# Altium integrated library ST Logic Gate.IntLib: 257 symbols (part 2 of 6)
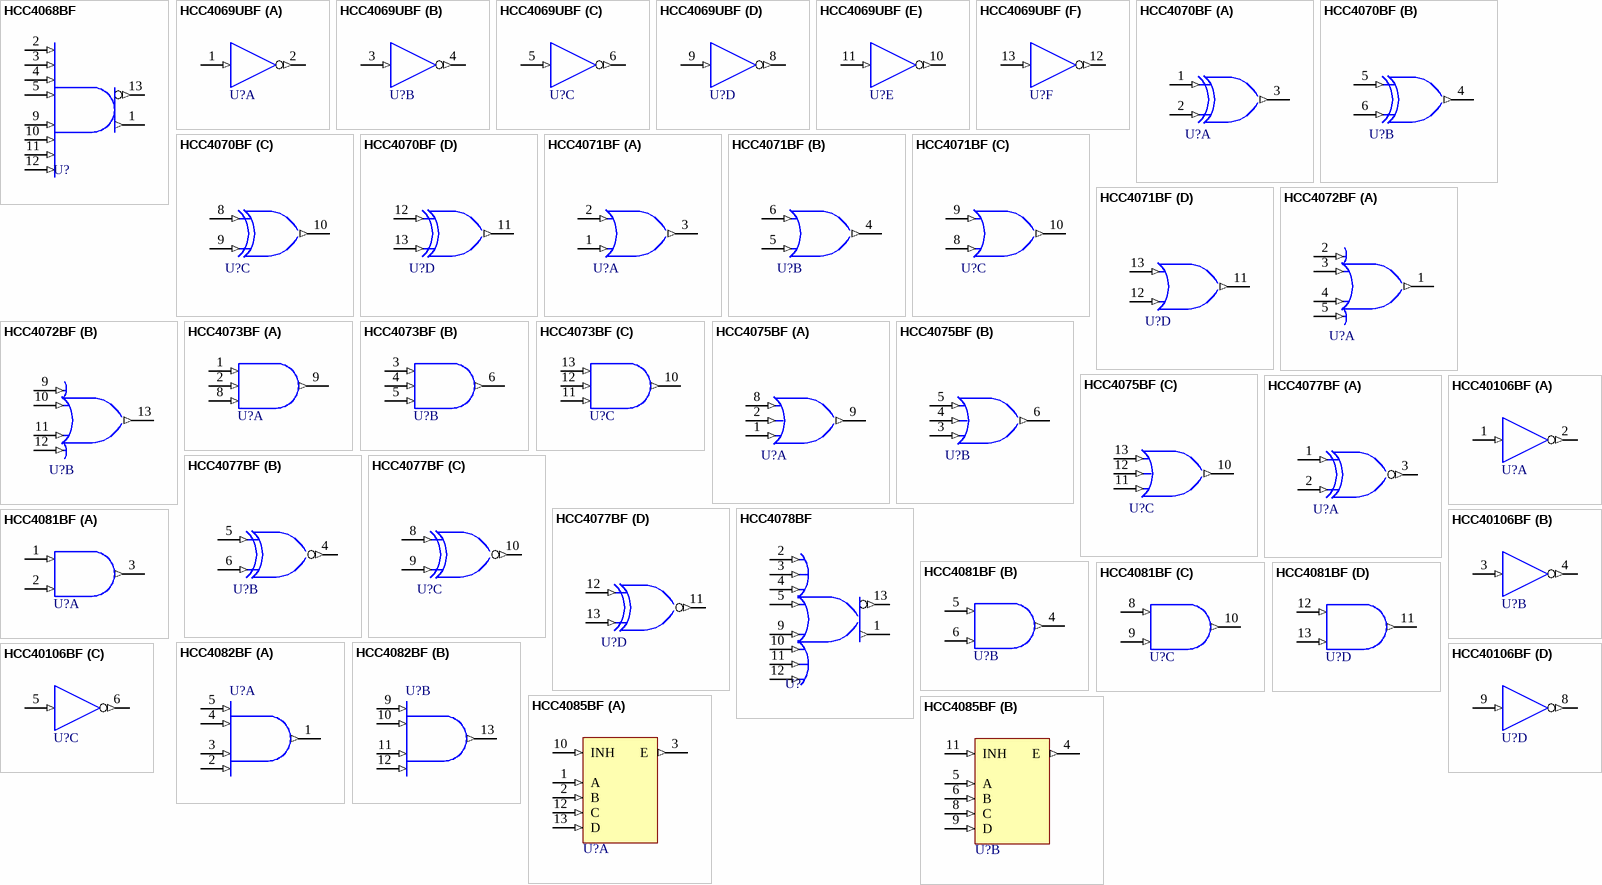
[diagram p25: symbols HCC4068BF to HCC40106BF]

## HCC4072BF
designator U?
Dual 4-Input OR Gate; Note: Pins 6 and 8 are not connected and not drawn.; Published: 8-Jun-2000; LatestRevisionDate: 06-Jun-2005; LatestRevisionNote: Stylized 3D Model Added.; DatasheetVersion: Jun-1989; PackageReference: CDIP14; Publisher: Altium Limited; PackageDescription: DIP; 14 Leads; Row Spacing 7.62 mm; Pitch 2.54 mm; ComponentLink1Description: Manufacturer Link; ComponentLink1URL: http://www.st.com/
footprint CDIP14 (DIP; 14 Leads; Row Spacing 7.62 mm; Pitch 2.54 mm)
3D model DIP14 (DIP; 14 Leads; Row Spacing 7.62 mm; Pitch 2.54 mm)
simulation model HCC4072 (SIMCODE)
pins on every part: 7 GND (power) hidden to GND, 14 VDD (power) hidden to VDD
part A pins: 1 J (out), 2 A (in), 3 B (in), 4 C (in), 5 D (in)
part B pins: 9 E (in), 10 F (in), 11 G (in), 12 H (in), 13 K (out)

## HCC4073BF
designator U?
Triple 3-Input AND Gate; Published: 8-Jun-2000; LatestRevisionDate: 06-Jun-2005; LatestRevisionNote: Stylized 3D Model Added.; DatasheetVersion: Jun-1989; PackageReference: CDIP14; Publisher: Altium Limited; PackageDescription: DIP; 14 Leads; Row Spacing 7.62 mm; Pitch 2.54 mm; ComponentLink1Description: Manufacturer Link; ComponentLink1URL: http://www.st.com/
footprint CDIP14 (DIP; 14 Leads; Row Spacing 7.62 mm; Pitch 2.54 mm)
3D model DIP14 (DIP; 14 Leads; Row Spacing 7.62 mm; Pitch 2.54 mm)
simulation model HCC4073 (SIMCODE)
pins on every part: 7 GND (power) hidden to GND, 14 VDD (power) hidden to VDD
part A pins: 1 A (in), 2 B (in), 8 C (in), 9 J (out)
part B pins: 3 D (in), 4 E (in), 5 F (in), 6 K (out)
part C pins: 10 L (out), 11 I (in), 12 H (in), 13 G (in)

## HCC4075BF
designator U?
Triple 3-Input OR Gate; Published: 8-Jun-2000; LatestRevisionDate: 06-Jun-2005; LatestRevisionNote: Stylized 3D Model Added.; DatasheetVersion: Jun-1989; PackageReference: CDIP14; Publisher: Altium Limited; PackageDescription: DIP; 14 Leads; Row Spacing 7.62 mm; Pitch 2.54 mm; ComponentLink1Description: Manufacturer Link; ComponentLink1URL: http://www.st.com/
footprint CDIP14 (DIP; 14 Leads; Row Spacing 7.62 mm; Pitch 2.54 mm)
3D model DIP14 (DIP; 14 Leads; Row Spacing 7.62 mm; Pitch 2.54 mm)
simulation model HCC4075 (SIMCODE)
pins on every part: 7 GND (power) hidden to GND, 14 VDD (power) hidden to VDD
part A pins: 1 C (in), 2 B (in), 8 A (in), 9 J (out)
part B pins: 3 F (in), 4 E (in), 5 D (in), 6 K (out)
part C pins: 10 L (out), 11 I (in), 12 H (in), 13 G (in)

## HCC4077BF
designator U?
Quad Exclusive NOR Gate; Published: 8-Jun-2000; LatestRevisionDate: 06-Jun-2005; LatestRevisionNote: Stylized 3D Model Added.; DatasheetVersion: Sep-1988; PackageReference: CDIP14; Publisher: Altium Limited; PackageDescription: DIP; 14 Leads; Row Spacing 7.62 mm; Pitch 2.54 mm; ComponentLink1Description: Manufacturer Link; ComponentLink1URL: http://www.st.com/
footprint CDIP14 (DIP; 14 Leads; Row Spacing 7.62 mm; Pitch 2.54 mm)
3D model DIP14 (DIP; 14 Leads; Row Spacing 7.62 mm; Pitch 2.54 mm)
simulation model HCC4077 (SIMCODE)
pins on every part: 7 GND (power) hidden to GND, 14 VCC (power) hidden to VCC
part A pins: 1 A (in), 2 B (in), 3 J (out)
part B pins: 4 K (out), 5 C (in), 6 D (in)
part C pins: 8 E (in), 9 F (in), 10 L (out)
part D pins: 11 M (out), 12 G (in), 13 H (in)

## HCC4078BF
designator U?
8-Input NOR/OR Gate; Note: Pins 6 and 8 are not connected and not drawn.; Published: 8-Jun-2000; LatestRevisionDate: 06-Jun-2005; LatestRevisionNote: Stylized 3D Model Added.; DatasheetVersion: Jun-1989; PackageReference: CDIP14; Publisher: Altium Limited; PackageDescription: DIP; 14 Leads; Row Spacing 7.62 mm; Pitch 2.54 mm; ComponentLink1Description: Manufacturer Link; ComponentLink1URL: http://www.st.com/
footprint CDIP14 (DIP; 14 Leads; Row Spacing 7.62 mm; Pitch 2.54 mm)
3D model DIP14 (DIP; 14 Leads; Row Spacing 7.62 mm; Pitch 2.54 mm)
simulation model HCC4078 (SIMCODE)
pins: 1 K (out), 2 A (in), 3 B (in), 4 C (in), 5 D (in), 7 GND (power) hidden to GND, 9 E (in), 10 F (in), 11 G (in), 12 H (in), 13 J (out), 14 VCC (power) hidden to VCC

## HCC4081BF
designator U?
Quad 2-Input AND Gate; Published: 8-Jun-2000; LatestRevisionDate: 06-Jun-2005; LatestRevisionNote: Stylized 3D Model Added.; DatasheetVersion: Jun-1989; PackageReference: CDIP14; Publisher: Altium Limited; PackageDescription: DIP; 14 Leads; Row Spacing 7.62 mm; Pitch 2.54 mm; ComponentLink1Description: Manufacturer Link; ComponentLink1URL: http://www.st.com/
footprint CDIP14 (DIP; 14 Leads; Row Spacing 7.62 mm; Pitch 2.54 mm)
3D model DIP14 (DIP; 14 Leads; Row Spacing 7.62 mm; Pitch 2.54 mm)
simulation model HCC4081 (SIMCODE)
pins on every part: 7 GND (power) hidden to GND, 14 VDD (power) hidden to VDD
part A pins: 1 A (in), 2 B (in), 3 J (out)
part B pins: 4 K (out), 5 C (in), 6 D (in)
part C pins: 8 E (in), 9 F (in), 10 L (out)
part D pins: 11 M (out), 12 G (in), 13 H (in)

## HCC4082BF
designator U?
Dual 4-Input AND Gate; Note: Pins 6 and 8 are not connected and not drawn.; Published: 8-Jun-2000; LatestRevisionDate: 06-Jun-2005; LatestRevisionNote: Stylized 3D Model Added.; DatasheetVersion: Jun-1989; PackageReference: CDIP14; Publisher: Altium Limited; PackageDescription: DIP; 14 Leads; Row Spacing 7.62 mm; Pitch 2.54 mm; ComponentLink1Description: Manufacturer Link; ComponentLink1URL: http://www.st.com/
footprint CDIP14 (DIP; 14 Leads; Row Spacing 7.62 mm; Pitch 2.54 mm)
3D model DIP14 (DIP; 14 Leads; Row Spacing 7.62 mm; Pitch 2.54 mm)
simulation model HCC4082 (SIMCODE)
pins on every part: 7 GND (power) hidden to GND, 14 VDD (power) hidden to VDD
part A pins: 1 J (out), 2 D (in), 3 C (in), 4 B (in), 5 A (in)
part B pins: 9 E (in), 10 F (in), 11 G (in), 12 H (in), 13 K (out)

## HCC4085BF
designator U?
Dual 2-Wide 2-Input AND-OR-Inverter Gate; Published: 8-Jun-2000; LatestRevisionDate: 06-Jun-2005; LatestRevisionNote: Stylized 3D Model Added.; DatasheetVersion: Sep-1988; PackageReference: CDIP14; Publisher: Altium Limited; PackageDescription: DIP; 14 Leads; Row Spacing 7.62 mm; Pitch 2.54 mm; ComponentLink1Description: Manufacturer Link; ComponentLink1URL: http://www.st.com/
footprint CDIP14 (DIP; 14 Leads; Row Spacing 7.62 mm; Pitch 2.54 mm)
3D model DIP14 (DIP; 14 Leads; Row Spacing 7.62 mm; Pitch 2.54 mm)
simulation model HCC4085 (SIMCODE)
pins on every part: 7 GND (power) hidden to GND, 14 VCC (power) hidden to VCC
part A pins: 1 A (in), 2 B (in), 3 E (out), 10 INH (in), 12 C (in), 13 D (in)
part B pins: 4 E (out), 5 A (in), 6 B (in), 8 C (in), 9 D (in), 11 INH (in)

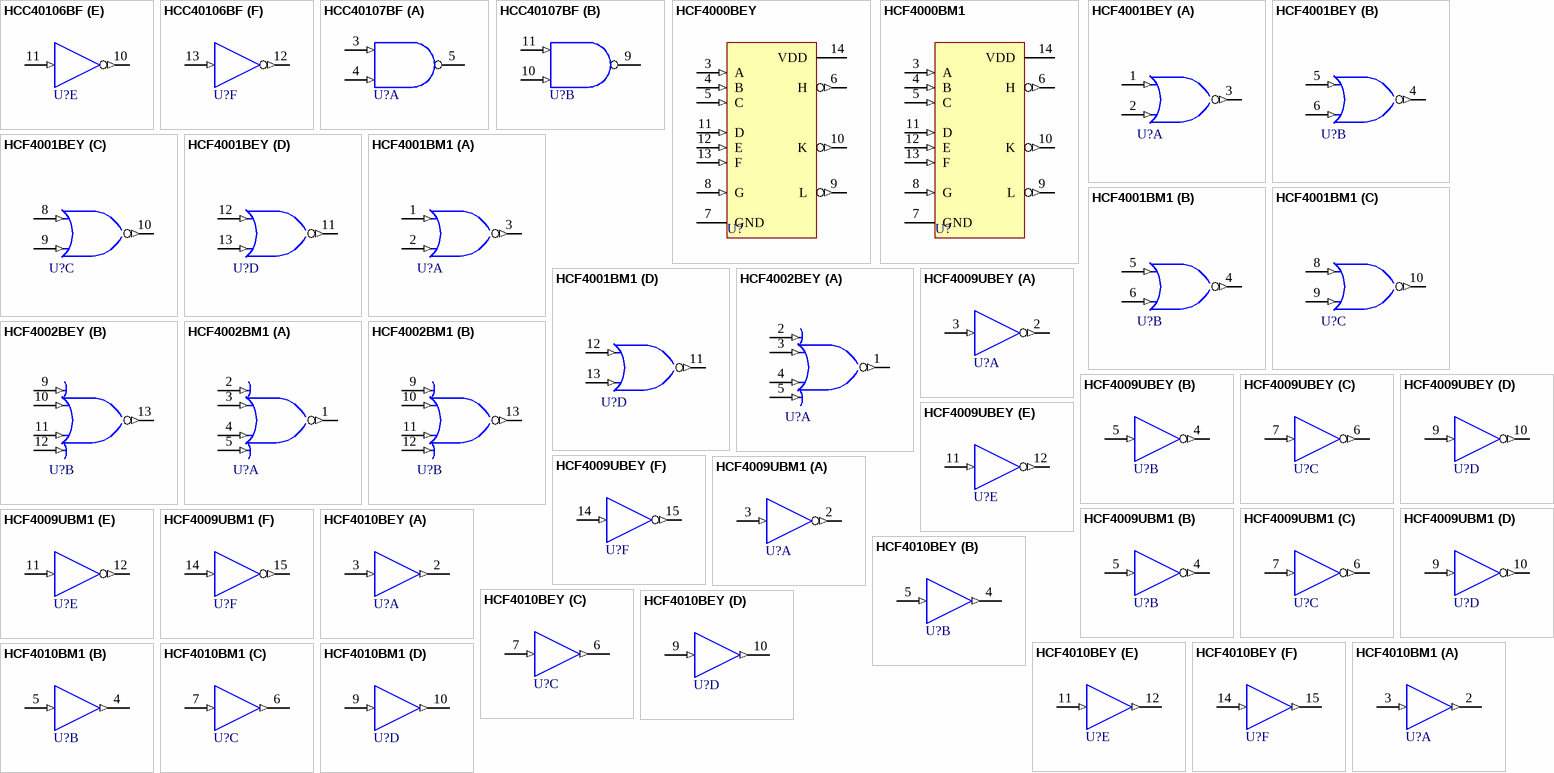
[diagram p6: symbols HCC40106BF to HCF4010BM1]

## HCC40106BF
designator U?
Hex Schmitt Trigger; Published: 8-Jun-2000; LatestRevisionDate: 06-Jun-2005; LatestRevisionNote: Stylized 3D Model Added.; DatasheetVersion: Jun-1989; PackageReference: CDIP14; Publisher: Altium Limited; PackageDescription: DIP; 14 Leads; Row Spacing 7.62 mm; Pitch 2.54 mm; ComponentLink1Description: Manufacturer Link; ComponentLink1URL: http://www.st.com/
footprint CDIP14 (DIP; 14 Leads; Row Spacing 7.62 mm; Pitch 2.54 mm)
3D model DIP14 (DIP; 14 Leads; Row Spacing 7.62 mm; Pitch 2.54 mm)
pins on every part: 7 GND (power) hidden to GND, 14 VCC (power) hidden to VCC
part A pins: 1 A (in), 2 G (out)
part B pins: 3 B (in), 4 H (out)
part C pins: 5 C (in), 6 I (out)
part D pins: 8 J (out), 9 D (in)
part E pins: 10 K (out), 11 E (in)
part F pins: 12 L (out), 13 F (in)

## HCC40107BF
designator U?
Dual 2-Input NAND Buffer/Driver; Note: Pins 1, 2, 6, 8, 12 and 13 are not connected and not drawn.; Published: 8-Jun-2000; LatestRevisionDate: 06-Jun-2005; LatestRevisionNote: Stylized 3D Model Added.; DatasheetVersion: Sep-1988; PackageReference: CDIP14; Publisher: Altium Limited; PackageDescription: DIP; 14 Leads; Row Spacing 7.62 mm; Pitch 2.54 mm; ComponentLink1Description: Manufacturer Link; ComponentLink1URL: http://www.st.com/
footprint CDIP14 (DIP; 14 Leads; Row Spacing 7.62 mm; Pitch 2.54 mm)
3D model DIP14 (DIP; 14 Leads; Row Spacing 7.62 mm; Pitch 2.54 mm)
pins on every part: 7 GND (power) hidden to GND, 14 VCC (power) hidden to VCC
part A pins: 3 A (in), 4 B (in), 5 C (oc)
part B pins: 9 F (oc), 10 E (in), 11 D (in)

## HCF4000BEY
designator U?
Dual 3-Input NOR-Gate Plus Inverter; Note: Pins 1and 2 are not connected and not drawn.; Published: 8-Jun-2000; LatestRevisionDate: 06-Jun-2005; LatestRevisionNote: Stylized 3D Model Added.; DatasheetVersion: Sep-1988; PackageVersion: Jan-1997; PackageReference: DIP14; Publisher: Altium Limited; PackageDescription: DIP; 14 Leads; Row Spacing 7.62 mm; Pitch 2.54 mm; ComponentLink1Description: Manufacturer Link; ComponentLink1URL: http://www.st.com/
footprint DIP14 (DIP; 14 Leads; Row Spacing 7.62 mm; Pitch 2.54 mm)
3D model DIP14 (DIP; 14 Leads; Row Spacing 7.62 mm; Pitch 2.54 mm)
simulation model HCF4000 (SIMCODE)
pins: 3 A (in), 4 B (in), 5 C (in), 6 H (out), 7 GND (power), 8 G (in), 9 L (out), 10 K (out), 11 D (in), 12 E (in), 13 F (in), 14 VDD (power)

## HCF4000BM1
designator U?
Dual 3-Input NOR-Gate Plus Inverter; Note: Pins 1and 2 are not connected and not drawn.; Published: 8-Jun-2000; LatestRevisionDate: 13-Apr-2006; LatestRevisionNote: IPC-7351 Footprint Added.; DatasheetVersion: Sep-1988; PackageVersion: Sep-1998; PackageReference: SO14; Publisher: Altium Limited; PackageDescription: 14-Pin Small Outline Integrated Circuit 1.27 mm Pitch; Code_IPC: SOIC127P600-14; ComponentLink1Description: Manufacturer Link; ComponentLink1URL: http://www.st.com/
footprint SO14_N (SOIC, 14-Leads, Body 8.7x3.9mm, Pitch 1.27mm, IPC Medium Density)
footprint SO14_L (SOIC, 14-Leads, Body 8.7x3.9mm, Pitch 1.27mm, IPC High Density)
footprint SO14_M (SOIC, 14-Leads, Body 8.7x3.9mm, Pitch 1.27mm, IPC Low Density)
3D model SO14 (14-Pin Small Outline Integrated Circuit 1.27 mm Pitch)
simulation model HCF4000 (SIMCODE)
pins: 3 A (in), 4 B (in), 5 C (in), 6 H (out), 7 GND (power), 8 G (in), 9 L (out), 10 K (out), 11 D (in), 12 E (in), 13 F (in), 14 VDD (power)

## HCF4001BEY
designator U?
Quad 2-Input NOR Gate; Published: 8-Jun-2000; LatestRevisionDate: 06-Jun-2005; LatestRevisionNote: Stylized 3D Model Added.; DatasheetVersion: Sep-1988; PackageVersion: Jan-1997; PackageReference: DIP14; Publisher: Altium Limited; PackageDescription: DIP; 14 Leads; Row Spacing 7.62 mm; Pitch 2.54 mm; ComponentLink1Description: Manufacturer Link; ComponentLink1URL: http://www.st.com/; ComponentLink2Description: Datasheet; ComponentLink2URL: http://www.st.com/stonline/products/literature/ds/8098/hcf4001.pdf
footprint DIP14 (DIP; 14 Leads; Row Spacing 7.62 mm; Pitch 2.54 mm)
3D model DIP14 (DIP; 14 Leads; Row Spacing 7.62 mm; Pitch 2.54 mm)
simulation model HCF4001 (SIMCODE)
pins on every part: 7 GND (power) hidden to GND, 14 VDD (power) hidden to VDD
part A pins: 1 A (in), 2 B (in), 3 J (out)
part B pins: 4 K (out), 5 C (in), 6 D (in)
part C pins: 8 E (in), 9 F (in), 10 L (out)
part D pins: 11 M (out), 12 G (in), 13 H (in)

## HCF4001BM1
designator U?
Quad 2-Input NOR Gate; Published: 8-Jun-2000; LatestRevisionDate: 13-Apr-2006; LatestRevisionNote: IPC-7351 Footprint Added.; DatasheetVersion: Sep-1988; PackageVersion: Sep-1998; PackageReference: SO14; Publisher: Altium Limited; PackageDescription: 14-Pin Small Outline Integrated Circuit 1.27 mm Pitch; Code_IPC: SOIC127P600-14; ComponentLink1Description: Manufacturer Link; ComponentLink1URL: http://www.st.com/; ComponentLink2Description: Datasheet; ComponentLink2URL: http://www.st.com/stonline/products/literature/ds/8098/hcf4001.pdf
footprint SO14_N (SOIC, 14-Leads, Body 8.7x3.9mm, Pitch 1.27mm, IPC Medium Density)
footprint SO14_L (SOIC, 14-Leads, Body 8.7x3.9mm, Pitch 1.27mm, IPC High Density)
footprint SO14_M (SOIC, 14-Leads, Body 8.7x3.9mm, Pitch 1.27mm, IPC Low Density)
3D model SO14 (14-Pin Small Outline Integrated Circuit 1.27 mm Pitch)
simulation model HCF4001 (SIMCODE)
pins on every part: 7 GND (power) hidden to GND, 14 VDD (power) hidden to VDD
part A pins: 1 A (in), 2 B (in), 3 J (out)
part B pins: 4 K (out), 5 C (in), 6 D (in)
part C pins: 8 E (in), 9 F (in), 10 L (out)
part D pins: 11 M (out), 12 G (in), 13 H (in)

## HCF4002BEY
designator U?
Dual 4-Input NOR Gate; Note: Pins 6 and 8 are not connected and not drawn.; Published: 8-Jun-2000; LatestRevisionDate: 06-Jun-2005; LatestRevisionNote: Stylized 3D Model Added.; DatasheetVersion: Sep-1988; PackageVersion: Jan-1997; PackageReference: DIP14; Publisher: Altium Limited; PackageDescription: DIP; 14 Leads; Row Spacing 7.62 mm; Pitch 2.54 mm; ComponentLink1Description: Manufacturer Link; ComponentLink1URL: http://www.st.com/; ComponentLink2Description: Datasheet; ComponentLink2URL: http://www.st.com/stonline/products/literature/ds/8099/hcf4002.pdf
footprint DIP14 (DIP; 14 Leads; Row Spacing 7.62 mm; Pitch 2.54 mm)
3D model DIP14 (DIP; 14 Leads; Row Spacing 7.62 mm; Pitch 2.54 mm)
simulation model HCF4002 (SIMCODE)
pins on every part: 7 GND (power) hidden to GND, 14 VDD (power) hidden to VDD
part A pins: 1 J (out), 2 A (in), 3 B (in), 4 C (in), 5 D (in)
part B pins: 9 E (in), 10 F (in), 11 G (in), 12 H (in), 13 K (out)

## HCF4002BM1
designator U?
Dual 4-Input NOR Gate; Note: Pins 6 and 8 are not connected and not drawn.; Published: 8-Jun-2000; LatestRevisionDate: 13-Apr-2006; LatestRevisionNote: IPC-7351 Footprint Added.; DatasheetVersion: Sep-1988; PackageVersion: Sep-1998; PackageReference: SO14; Publisher: Altium Limited; PackageDescription: 14-Pin Small Outline Integrated Circuit 1.27 mm Pitch; Code_IPC: SOIC127P600-14; ComponentLink1Description: Manufacturer Link; ComponentLink1URL: http://www.st.com/; ComponentLink2Description: Datasheet; ComponentLink2URL: http://www.st.com/stonline/products/literature/ds/8099/hcf4002.pdf
footprint SO14_N (SOIC, 14-Leads, Body 8.7x3.9mm, Pitch 1.27mm, IPC Medium Density)
footprint SO14_L (SOIC, 14-Leads, Body 8.7x3.9mm, Pitch 1.27mm, IPC High Density)
footprint SO14_M (SOIC, 14-Leads, Body 8.7x3.9mm, Pitch 1.27mm, IPC Low Density)
3D model SO14 (14-Pin Small Outline Integrated Circuit 1.27 mm Pitch)
simulation model HCF4002 (SIMCODE)
pins on every part: 7 GND (power) hidden to GND, 14 VDD (power) hidden to VDD
part A pins: 1 J (out), 2 A (in), 3 B (in), 4 C (in), 5 D (in)
part B pins: 9 E (in), 10 F (in), 11 G (in), 12 H (in), 13 K (out)

## HCF4009UBEY
designator U?
Hex Buffer/Converter; Note: Pin 13 is not connected and not drawn.; Published: 8-Jun-2000; LatestRevisionDate: 06-Jun-2005; LatestRevisionNote: Stylized 3D Model Added.; DatasheetVersion: Sep-1988; PackageVersion: Apr-1996; PackageReference: DIP16; Publisher: Altium Limited; PackageDescription: DIP; 16 Leads; Row Spacing 7.62 mm; Pitch 2.54 mm; ComponentLink1Description: Manufacturer Link; ComponentLink1URL: http://www.st.com/; ComponentLink2Description: Datasheet; ComponentLink2URL: http://www.st.com/stonline/products/literature/ds/2011/hcf4009u.pdf
footprint DIP16 (DIP; 16 Leads; Row Spacing 7.62 mm; Pitch 2.54 mm)
3D model DIP16 (DIP; 16 Leads; Row Spacing 7.62 mm; Pitch 2.54 mm)
pins on every part: 1 VCC (power) hidden to VCC, 8 GND (power) hidden to GND, 16 VCC (power) hidden to VCC
part A pins: 2 G (out), 3 A (in)
part B pins: 4 H (out), 5 B (in)
part C pins: 6 I (out), 7 C (in)
part D pins: 9 D (in), 10 J (out)
part E pins: 11 E (in), 12 K (out)
part F pins: 14 F (in), 15 L (out)

## HCF4009UBM1
designator U?
Hex Buffer/Converter; Note: Pin 13 is not connected and not drawn.; Published: 8-Jun-2000; LatestRevisionDate: 13-Apr-2006; LatestRevisionNote: IPC-7351 Footprint Added.; DatasheetVersion: Sep-1988; PackageVersion: May-1998; PackageReference: SO16; Publisher: Altium Limited; PackageDescription: 16-Pin Small Outline Integrated Circuit 1.27 mm Pitch; Code_IPC: SOIC127P600-16; ComponentLink1Description: Manufacturer Link; ComponentLink1URL: http://www.st.com/; ComponentLink2Description: Datasheet; ComponentLink2URL: http://www.st.com/stonline/products/literature/ds/2011/hcf4009u.pdf
footprint SO16_N (SOIC, 16-Leads, Body 9.9x3.9mm, Pitch 1.27mm, IPC Medium Density)
footprint SO16_L (SOIC, 16-Leads, Body 9.9x3.9mm, Pitch 1.27mm, IPC High Density)
footprint SO16_M (SOIC, 16-Leads, Body 9.9x3.9mm, Pitch 1.27mm, IPC Low Density)
3D model SO16 (16-Pin Small Outline Integrated Circuit 1.27 mm Pitch)
pins on every part: 1 VCC (power) hidden to VCC, 8 GND (power) hidden to GND, 16 VCC (power) hidden to VCC
part A pins: 2 G (out), 3 A (in)
part B pins: 4 H (out), 5 B (in)
part C pins: 6 I (out), 7 C (in)
part D pins: 9 D (in), 10 J (out)
part E pins: 11 E (in), 12 K (out)
part F pins: 14 F (in), 15 L (out)

## HCF4010BEY
designator U?
Hex Buffer/Converter; Note: Pin 13 is not connected and not drawn.; Published: 8-Jun-2000; LatestRevisionDate: 06-Jun-2005; LatestRevisionNote: Stylized 3D Model Added.; DatasheetVersion: Sep-1988; PackageVersion: Apr-1996; PackageReference: DIP16; Publisher: Altium Limited; PackageDescription: DIP; 16 Leads; Row Spacing 7.62 mm; Pitch 2.54 mm; ComponentLink1Description: Manufacturer Link; ComponentLink1URL: http://www.st.com/; ComponentLink2Description: Datasheet; ComponentLink2URL: http://www.st.com/stonline/products/literature/ds/8190/hcf4010.pdf
footprint DIP16 (DIP; 16 Leads; Row Spacing 7.62 mm; Pitch 2.54 mm)
3D model DIP16 (DIP; 16 Leads; Row Spacing 7.62 mm; Pitch 2.54 mm)
pins on every part: 1 VCC (power) hidden to VCC, 8 GND (power) hidden to GND, 16 VCC (power) hidden to VCC
part A pins: 2 G (out), 3 A (in)
part B pins: 4 H (out), 5 B (in)
part C pins: 6 I (out), 7 C (in)
part D pins: 9 D (in), 10 J (out)
part E pins: 11 E (in), 12 K (out)
part F pins: 14 F (in), 15 L (out)

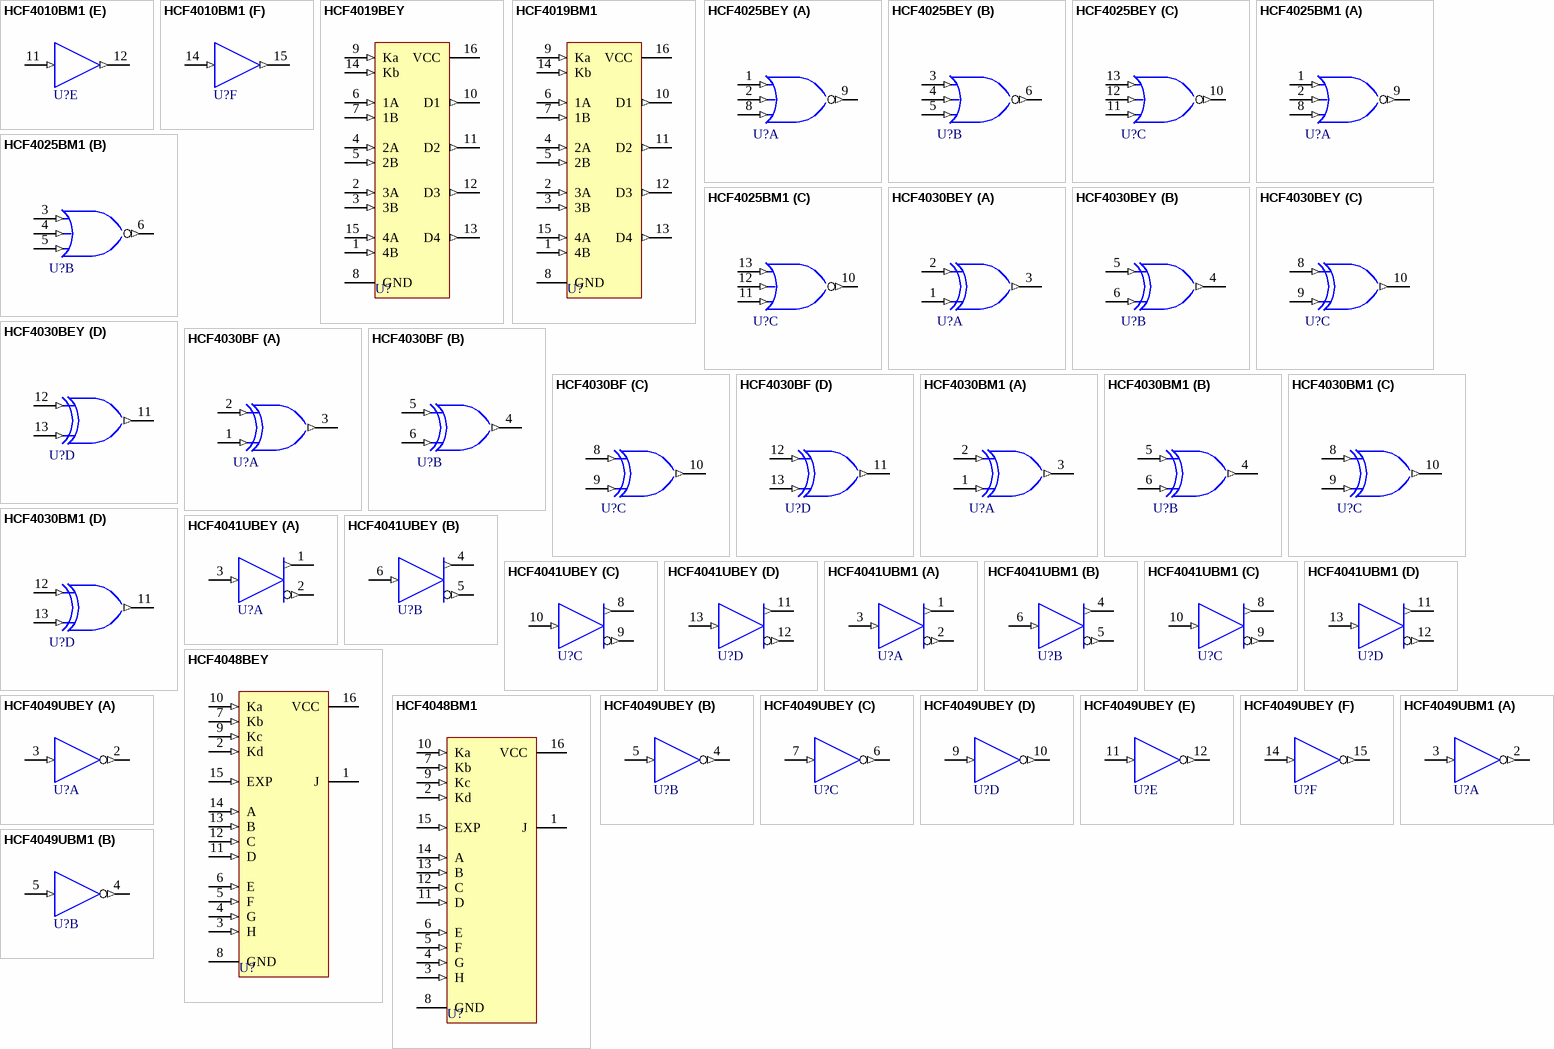
[diagram p7: symbols HCF4010BM1 to HCF4049UBM1]

## HCF4010BM1
designator U?
Hex Buffer/Converter; Note: Pin 13 is not connected and not drawn.; Published: 8-Jun-2000; LatestRevisionDate: 13-Apr-2006; LatestRevisionNote: IPC-7351 Footprint Added.; DatasheetVersion: Sep-1988; PackageVersion: May-1998; PackageReference: SO16; Publisher: Altium Limited; PackageDescription: 16-Pin Small Outline Integrated Circuit 1.27 mm Pitch; Code_IPC: SOIC127P600-16; ComponentLink1Description: Manufacturer Link; ComponentLink1URL: http://www.st.com/; ComponentLink2Description: Datasheet; ComponentLink2URL: http://www.st.com/stonline/products/literature/ds/8190/hcf4010.pdf
footprint SO16_N (SOIC, 16-Leads, Body 9.9x3.9mm, Pitch 1.27mm, IPC Medium Density)
footprint SO16_L (SOIC, 16-Leads, Body 9.9x3.9mm, Pitch 1.27mm, IPC High Density)
footprint SO16_M (SOIC, 16-Leads, Body 9.9x3.9mm, Pitch 1.27mm, IPC Low Density)
3D model SO16 (16-Pin Small Outline Integrated Circuit 1.27 mm Pitch)
pins on every part: 1 VCC (power) hidden to VCC, 8 GND (power) hidden to GND, 16 VCC (power) hidden to VCC
part A pins: 2 G (out), 3 A (in)
part B pins: 4 H (out), 5 B (in)
part C pins: 6 I (out), 7 C (in)
part D pins: 9 D (in), 10 J (out)
part E pins: 11 E (in), 12 K (out)
part F pins: 14 F (in), 15 L (out)

## HCF4019BEY
designator U?
Quad AND/OR Select Gate; Published: 8-Jun-2000; LatestRevisionDate: 06-Jun-2005; LatestRevisionNote: Stylized 3D Model Added.; DatasheetVersion: Jun-1989; PackageVersion: Apr-1996; PackageReference: DIP16; Publisher: Altium Limited; PackageDescription: DIP; 16 Leads; Row Spacing 7.62 mm; Pitch 2.54 mm; ComponentLink1Description: Manufacturer Link; ComponentLink1URL: http://www.st.com/; ComponentLink2Description: Datasheet; ComponentLink2URL: http://www.st.com/stonline/products/literature/ds/2034/hcf4019.pdf
footprint DIP16 (DIP; 16 Leads; Row Spacing 7.62 mm; Pitch 2.54 mm)
3D model DIP16 (DIP; 16 Leads; Row Spacing 7.62 mm; Pitch 2.54 mm)
simulation model HCF4019 (SIMCODE)
pins: 1 4B (in), 2 3A (in), 3 3B (in), 4 2A (in), 5 2B (in), 6 1A (in), 7 1B (in), 8 GND (power), 9 Ka (in), 10 D1 (out), 11 D2 (out), 12 D3 (out), 13 D4 (out), 14 Kb (in), 15 4A (in), 16 VCC (power)

## HCF4019BM1
designator U?
Quad AND/OR Select Gate; Published: 8-Jun-2000; LatestRevisionDate: 13-Apr-2006; LatestRevisionNote: IPC-7351 Footprint Added.; DatasheetVersion: Jun-1989; PackageVersion: May-1998; PackageReference: SO16; Publisher: Altium Limited; PackageDescription: 16-Pin Small Outline Integrated Circuit 1.27 mm Pitch; Code_IPC: SOIC127P600-16; ComponentLink1Description: Manufacturer Link; ComponentLink1URL: http://www.st.com/; ComponentLink2Description: Datasheet; ComponentLink2URL: http://www.st.com/stonline/products/literature/ds/2034/hcf4019.pdf
footprint SO16_N (SOIC, 16-Leads, Body 9.9x3.9mm, Pitch 1.27mm, IPC Medium Density)
footprint SO16_L (SOIC, 16-Leads, Body 9.9x3.9mm, Pitch 1.27mm, IPC High Density)
footprint SO16_M (SOIC, 16-Leads, Body 9.9x3.9mm, Pitch 1.27mm, IPC Low Density)
3D model SO16 (16-Pin Small Outline Integrated Circuit 1.27 mm Pitch)
simulation model HCF4019 (SIMCODE)
pins: 1 4B (in), 2 3A (in), 3 3B (in), 4 2A (in), 5 2B (in), 6 1A (in), 7 1B (in), 8 GND (power), 9 Ka (in), 10 D1 (out), 11 D2 (out), 12 D3 (out), 13 D4 (out), 14 Kb (in), 15 4A (in), 16 VCC (power)

## HCF4025BEY
designator U?
Triple 3-Input NOR Gate; Published: 8-Jun-2000; LatestRevisionDate: 06-Jun-2005; LatestRevisionNote: Stylized 3D Model Added.; DatasheetVersion: Sep-1988; PackageVersion: Jan-1997; PackageReference: DIP14; Publisher: Altium Limited; PackageDescription: DIP; 14 Leads; Row Spacing 7.62 mm; Pitch 2.54 mm; ComponentLink1Description: Manufacturer Link; ComponentLink1URL: http://www.st.com/; ComponentLink2Description: Datasheet; ComponentLink2URL: http://www.st.com/stonline/products/literature/ds/8100/hcf4025.pdf
footprint DIP14 (DIP; 14 Leads; Row Spacing 7.62 mm; Pitch 2.54 mm)
3D model DIP14 (DIP; 14 Leads; Row Spacing 7.62 mm; Pitch 2.54 mm)
simulation model HCF4025 (SIMCODE)
pins on every part: 7 GND (power) hidden to GND, 14 VDD (power) hidden to VDD
part A pins: 1 A (in), 2 B (in), 8 C (in), 9 J (out)
part B pins: 3 D (in), 4 E (in), 5 F (in), 6 K (out)
part C pins: 10 L (out), 11 I (in), 12 H (in), 13 G (in)

## HCF4025BM1
designator U?
Triple 3-Input NOR Gate; Published: 8-Jun-2000; LatestRevisionDate: 13-Apr-2006; LatestRevisionNote: IPC-7351 Footprint Added.; DatasheetVersion: Sep-1988; PackageVersion: Sep-1998; PackageReference: SO14; Publisher: Altium Limited; PackageDescription: 14-Pin Small Outline Integrated Circuit 1.27 mm Pitch; Code_IPC: SOIC127P600-14; ComponentLink1Description: Manufacturer Link; ComponentLink1URL: http://www.st.com/; ComponentLink2Description: Datasheet; ComponentLink2URL: http://www.st.com/stonline/products/literature/ds/8100/hcf4025.pdf
footprint SO14_N (SOIC, 14-Leads, Body 8.7x3.9mm, Pitch 1.27mm, IPC Medium Density)
footprint SO14_L (SOIC, 14-Leads, Body 8.7x3.9mm, Pitch 1.27mm, IPC High Density)
footprint SO14_M (SOIC, 14-Leads, Body 8.7x3.9mm, Pitch 1.27mm, IPC Low Density)
3D model SO14 (14-Pin Small Outline Integrated Circuit 1.27 mm Pitch)
simulation model HCF4025 (SIMCODE)
pins on every part: 7 GND (power) hidden to GND, 14 VDD (power) hidden to VDD
part A pins: 1 A (in), 2 B (in), 8 C (in), 9 J (out)
part B pins: 3 D (in), 4 E (in), 5 F (in), 6 K (out)
part C pins: 10 L (out), 11 I (in), 12 H (in), 13 G (in)

## HCF4030BEY
designator U?
Quad Exclusive OR Gate; Published: 8-Jun-2000; LatestRevisionDate: 06-Jun-2005; LatestRevisionNote: Stylized 3D Model Added.; DatasheetVersion: Nov-1996; PackageVersion: Jan-1997; PackageReference: DIP14; Publisher: Altium Limited; PackageDescription: DIP; 14 Leads; Row Spacing 7.62 mm; Pitch 2.54 mm; ComponentLink1Description: Manufacturer Link; ComponentLink1URL: http://www.st.com/; ComponentLink2Description: Datasheet; ComponentLink2URL: http://www.st.com/stonline/products/literature/ds/4899/hcf4030.pdf
footprint DIP14 (DIP; 14 Leads; Row Spacing 7.62 mm; Pitch 2.54 mm)
3D model DIP14 (DIP; 14 Leads; Row Spacing 7.62 mm; Pitch 2.54 mm)
simulation model HCF4030 (SIMCODE)
pins on every part: 7 GND (power) hidden to GND, 14 VDD (power) hidden to VDD
part A pins: 1 B (in), 2 A (in), 3 J (out)
part B pins: 4 K (out), 5 C (in), 6 D (in)
part C pins: 8 E (in), 9 F (in), 10 L (out)
part D pins: 11 M (out), 12 G (in), 13 H (in)

## HCF4030BF
designator U?
Quad Exclusive OR Gate; Published: 8-Jun-2000; LatestRevisionDate: 06-Jun-2005; LatestRevisionNote: Stylized 3D Model Added.; DatasheetVersion: Nov-1996; PackageReference: CDIP14; Publisher: Altium Limited; PackageDescription: DIP; 14 Leads; Row Spacing 7.62 mm; Pitch 2.54 mm; ComponentLink1Description: Manufacturer Link; ComponentLink1URL: http://www.st.com/
footprint CDIP14 (DIP; 14 Leads; Row Spacing 7.62 mm; Pitch 2.54 mm)
3D model DIP14 (DIP; 14 Leads; Row Spacing 7.62 mm; Pitch 2.54 mm)
simulation model HCF4030 (SIMCODE)
pins on every part: 7 GND (power) hidden to GND, 14 VDD (power) hidden to VDD
part A pins: 1 B (in), 2 A (in), 3 J (out)
part B pins: 4 K (out), 5 C (in), 6 D (in)
part C pins: 8 E (in), 9 F (in), 10 L (out)
part D pins: 11 M (out), 12 G (in), 13 H (in)

## HCF4030BM1
designator U?
Quad Exclusive OR Gate; Published: 8-Jun-2000; LatestRevisionDate: 13-Apr-2006; LatestRevisionNote: IPC-7351 Footprint Added.; DatasheetVersion: Nov-1996; PackageVersion: Sep-1998; PackageReference: SO14; Publisher: Altium Limited; PackageDescription: 14-Pin Small Outline Integrated Circuit 1.27 mm Pitch; Code_IPC: SOIC127P600-14; ComponentLink1Description: Manufacturer Link; ComponentLink1URL: http://www.st.com/; ComponentLink2Description: Datasheet; ComponentLink2URL: http://www.st.com/stonline/products/literature/ds/4899/hcf4030.pdf
footprint SO14_N (SOIC, 14-Leads, Body 8.7x3.9mm, Pitch 1.27mm, IPC Medium Density)
footprint SO14_L (SOIC, 14-Leads, Body 8.7x3.9mm, Pitch 1.27mm, IPC High Density)
footprint SO14_M (SOIC, 14-Leads, Body 8.7x3.9mm, Pitch 1.27mm, IPC Low Density)
3D model SO14 (14-Pin Small Outline Integrated Circuit 1.27 mm Pitch)
simulation model HCF4030 (SIMCODE)
pins on every part: 7 GND (power) hidden to GND, 14 VDD (power) hidden to VDD
part A pins: 1 B (in), 2 A (in), 3 J (out)
part B pins: 4 K (out), 5 C (in), 6 D (in)
part C pins: 8 E (in), 9 F (in), 10 L (out)
part D pins: 11 M (out), 12 G (in), 13 H (in)

## HCF4041UBEY
designator U?
Quad True/Complement Buffer; Published: 8-Jun-2000; LatestRevisionDate: 06-Jun-2005; LatestRevisionNote: Stylized 3D Model Added.; DatasheetVersion: Jun-1989; PackageVersion: Jan-1997; PackageReference: DIP14; Publisher: Altium Limited; PackageDescription: DIP; 14 Leads; Row Spacing 7.62 mm; Pitch 2.54 mm; ComponentLink1Description: Manufacturer Link; ComponentLink1URL: http://www.st.com/; ComponentLink2Description: Datasheet; ComponentLink2URL: http://www.st.com/stonline/products/literature/ds/2046/hcf4041u.pdf
footprint DIP14 (DIP; 14 Leads; Row Spacing 7.62 mm; Pitch 2.54 mm)
3D model DIP14 (DIP; 14 Leads; Row Spacing 7.62 mm; Pitch 2.54 mm)
simulation model HCF4041 (SIMCODE)
pins on every part: 7 GND (power) hidden to GND, 14 VCC (power) hidden to VCC
part A pins: 1 E (out), 2 F (out), 3 A (in)
part B pins: 4 G (out), 5 H (out), 6 B (in)
part C pins: 8 K (out), 9 L (out), 10 C (in)
part D pins: 11 M (out), 12 N (out), 13 D (in)

## HCF4041UBM1
designator U?
Quad True/Complement Buffer; Published: 8-Jun-2000; LatestRevisionDate: 13-Apr-2006; LatestRevisionNote: IPC-7351 Footprint Added.; DatasheetVersion: Jun-1989; PackageVersion: Sep-1998; PackageReference: SO14; Publisher: Altium Limited; PackageDescription: 14-Pin Small Outline Integrated Circuit 1.27 mm Pitch; Code_IPC: SOIC127P600-14; ComponentLink1Description: Manufacturer Link; ComponentLink1URL: http://www.st.com/; ComponentLink2Description: Datasheet; ComponentLink2URL: http://www.st.com/stonline/products/literature/ds/2046/hcf4041u.pdf
footprint SO14_N (SOIC, 14-Leads, Body 8.7x3.9mm, Pitch 1.27mm, IPC Medium Density)
footprint SO14_L (SOIC, 14-Leads, Body 8.7x3.9mm, Pitch 1.27mm, IPC High Density)
footprint SO14_M (SOIC, 14-Leads, Body 8.7x3.9mm, Pitch 1.27mm, IPC Low Density)
3D model SO14 (14-Pin Small Outline Integrated Circuit 1.27 mm Pitch)
simulation model HCF4041 (SIMCODE)
pins on every part: 7 GND (power) hidden to GND, 14 VCC (power) hidden to VCC
part A pins: 1 E (out), 2 F (out), 3 A (in)
part B pins: 4 G (out), 5 H (out), 6 B (in)
part C pins: 8 K (out), 9 L (out), 10 C (in)
part D pins: 11 M (out), 12 N (out), 13 D (in)

## HCF4048BEY
designator U?
Multifunction Expandable 8-Input Gate; Published: 8-Jun-2000; LatestRevisionDate: 06-Jun-2005; LatestRevisionNote: Stylized 3D Model Added.; DatasheetVersion: Oct-1988; PackageVersion: Apr-1996; PackageReference: DIP16; Publisher: Altium Limited; PackageDescription: DIP; 16 Leads; Row Spacing 7.62 mm; Pitch 2.54 mm; ComponentLink1Description: Manufacturer Link; ComponentLink1URL: http://www.st.com/; ComponentLink2Description: Datasheet; ComponentLink2URL: http://www.st.com/stonline/products/literature/ds/2051/hcf4048.pdf
footprint DIP16 (DIP; 16 Leads; Row Spacing 7.62 mm; Pitch 2.54 mm)
3D model DIP16 (DIP; 16 Leads; Row Spacing 7.62 mm; Pitch 2.54 mm)
pins: 1 J (hiz), 2 Kd (in), 3 H (in), 4 G (in), 5 F (in), 6 E (in), 7 Kb (in), 8 GND (power), 9 Kc (in), 10 Ka (in), 11 D (in), 12 C (in), 13 B (in), 14 A (in), 15 EXP (in), 16 VCC (power)

## HCF4048BM1
designator U?
Multifunction Expandable 8-Input Gate; Published: 8-Jun-2000; LatestRevisionDate: 13-Apr-2006; LatestRevisionNote: IPC-7351 Footprint Added.; DatasheetVersion: Oct-1988; PackageVersion: May-1998; PackageReference: SO16; Publisher: Altium Limited; PackageDescription: 16-Pin Small Outline Integrated Circuit 1.27 mm Pitch; Code_IPC: SOIC127P600-16; ComponentLink1Description: Manufacturer Link; ComponentLink1URL: http://www.st.com/; ComponentLink2Description: Datasheet; ComponentLink2URL: http://www.st.com/stonline/products/literature/ds/2051/hcf4048.pdf
footprint SO16_N (SOIC, 16-Leads, Body 9.9x3.9mm, Pitch 1.27mm, IPC Medium Density)
footprint SO16_L (SOIC, 16-Leads, Body 9.9x3.9mm, Pitch 1.27mm, IPC High Density)
footprint SO16_M (SOIC, 16-Leads, Body 9.9x3.9mm, Pitch 1.27mm, IPC Low Density)
3D model SO16 (16-Pin Small Outline Integrated Circuit 1.27 mm Pitch)
pins: 1 J (hiz), 2 Kd (in), 3 H (in), 4 G (in), 5 F (in), 6 E (in), 7 Kb (in), 8 GND (power), 9 Kc (in), 10 Ka (in), 11 D (in), 12 C (in), 13 B (in), 14 A (in), 15 EXP (in), 16 VCC (power)

## HCF4049UBEY
designator U?
Hex Buffer/Converter; Note: Pins 13 and 16 are not connected and not drawn.; Published: 8-Jun-2000; LatestRevisionDate: 06-Jun-2005; LatestRevisionNote: Stylized 3D Model Added.; DatasheetVersion: Jun-1989; PackageVersion: Apr-1996; PackageReference: DIP16; Publisher: Altium Limited; PackageDescription: DIP; 16 Leads; Row Spacing 7.62 mm; Pitch 2.54 mm; ComponentLink1Description: Manufacturer Link; ComponentLink1URL: http://www.st.com/; ComponentLink2Description: Datasheet; ComponentLink2URL: http://www.st.com/stonline/products/literature/ds/2052/hcf4049u.pdf
footprint DIP16 (DIP; 16 Leads; Row Spacing 7.62 mm; Pitch 2.54 mm)
3D model DIP16 (DIP; 16 Leads; Row Spacing 7.62 mm; Pitch 2.54 mm)
simulation model HCF4049 (SIMCODE)
pins on every part: 1 VCC (power) hidden to VCC, 8 GND (power) hidden to GND
part A pins: 2 G (out), 3 A (in)
part B pins: 4 H (out), 5 B (in)
part C pins: 6 I (out), 7 C (in)
part D pins: 9 D (in), 10 J (out)
part E pins: 11 E (in), 12 K (out)
part F pins: 14 F (in), 15 L (out)

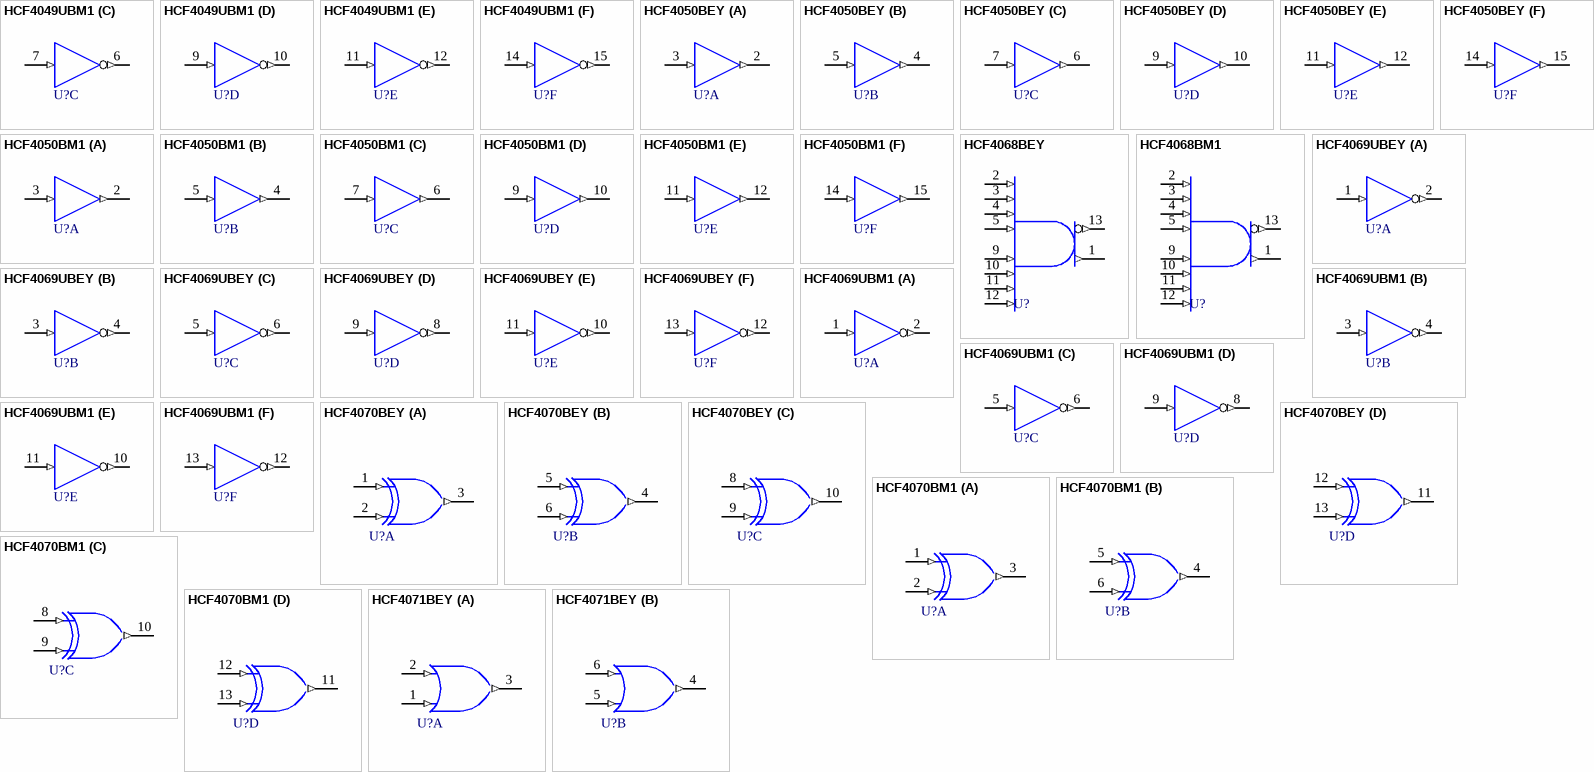
[diagram p8: symbols HCF4049UBM1 to HCF4071BEY]

## HCF4049UBM1
designator U?
Hex Buffer/Converter; Note: Pins 13 and 16 are not connected and not drawn.; Published: 8-Jun-2000; LatestRevisionDate: 13-Apr-2006; LatestRevisionNote: IPC-7351 Footprint Added.; DatasheetVersion: Jun-1989; PackageVersion: May-1998; PackageReference: SO16; Publisher: Altium Limited; PackageDescription: 16-Pin Small Outline Integrated Circuit 1.27 mm Pitch; Code_IPC: SOIC127P600-16; ComponentLink1Description: Manufacturer Link; ComponentLink1URL: http://www.st.com/; ComponentLink2Description: Datasheet; ComponentLink2URL: http://www.st.com/stonline/products/literature/ds/2052/hcf4049u.pdf
footprint SO16_N (SOIC, 16-Leads, Body 9.9x3.9mm, Pitch 1.27mm, IPC Medium Density)
footprint SO16_L (SOIC, 16-Leads, Body 9.9x3.9mm, Pitch 1.27mm, IPC High Density)
footprint SO16_M (SOIC, 16-Leads, Body 9.9x3.9mm, Pitch 1.27mm, IPC Low Density)
3D model SO16 (16-Pin Small Outline Integrated Circuit 1.27 mm Pitch)
simulation model HCF4049 (SIMCODE)
pins on every part: 1 VCC (power) hidden to VCC, 8 GND (power) hidden to GND
part A pins: 2 G (out), 3 A (in)
part B pins: 4 H (out), 5 B (in)
part C pins: 6 I (out), 7 C (in)
part D pins: 9 D (in), 10 J (out)
part E pins: 11 E (in), 12 K (out)
part F pins: 14 F (in), 15 L (out)

## HCF4050BEY
designator U?
Hex Buffer/Converter; Note: Pins 13 and 16 are not connected and not drawn.; Published: 8-Jun-2000; LatestRevisionDate: 06-Jun-2005; LatestRevisionNote: Stylized 3D Model Added.; DatasheetVersion: Jun-1989; PackageVersion: Apr-1996; PackageReference: DIP16; Publisher: Altium Limited; PackageDescription: DIP; 16 Leads; Row Spacing 7.62 mm; Pitch 2.54 mm; ComponentLink1Description: Manufacturer Link; ComponentLink1URL: http://www.st.com/; ComponentLink2Description: Datasheet; ComponentLink2URL: http://www.st.com/stonline/products/literature/ds/8194/hcf4050.pdf
footprint DIP16 (DIP; 16 Leads; Row Spacing 7.62 mm; Pitch 2.54 mm)
3D model DIP16 (DIP; 16 Leads; Row Spacing 7.62 mm; Pitch 2.54 mm)
simulation model HCF4050 (SIMCODE)
pins on every part: 1 VCC (power) hidden to VCC, 8 GND (power) hidden to GND
part A pins: 2 G (out), 3 A (in)
part B pins: 4 H (out), 5 B (in)
part C pins: 6 I (out), 7 C (in)
part D pins: 9 D (in), 10 J (out)
part E pins: 11 E (in), 12 K (out)
part F pins: 14 F (in), 15 L (out)

## HCF4050BM1
designator U?
Hex Buffer/Converter; Note: Pins 13 and 16 are not connected and not drawn.; Published: 8-Jun-2000; LatestRevisionDate: 13-Apr-2006; LatestRevisionNote: IPC-7351 Footprint Added.; DatasheetVersion: Jun-1989; PackageVersion: May-1998; PackageReference: SO16; Publisher: Altium Limited; PackageDescription: 16-Pin Small Outline Integrated Circuit 1.27 mm Pitch; Code_IPC: SOIC127P600-16; ComponentLink1Description: Manufacturer Link; ComponentLink1URL: http://www.st.com/; ComponentLink2Description: Datasheet; ComponentLink2URL: http://www.st.com/stonline/products/literature/ds/8194/hcf4050.pdf
footprint SO16_N (SOIC, 16-Leads, Body 9.9x3.9mm, Pitch 1.27mm, IPC Medium Density)
footprint SO16_L (SOIC, 16-Leads, Body 9.9x3.9mm, Pitch 1.27mm, IPC High Density)
footprint SO16_M (SOIC, 16-Leads, Body 9.9x3.9mm, Pitch 1.27mm, IPC Low Density)
3D model SO16 (16-Pin Small Outline Integrated Circuit 1.27 mm Pitch)
simulation model HCF4050 (SIMCODE)
pins on every part: 1 VCC (power) hidden to VCC, 8 GND (power) hidden to GND
part A pins: 2 G (out), 3 A (in)
part B pins: 4 H (out), 5 B (in)
part C pins: 6 I (out), 7 C (in)
part D pins: 9 D (in), 10 J (out)
part E pins: 11 E (in), 12 K (out)
part F pins: 14 F (in), 15 L (out)

## HCF4068BEY
designator U?
8-Input NAND/AND Gate; Note: Pins 6 and 8 are not connected and not drawn.; Published: 8-Jun-2000; LatestRevisionDate: 06-Jun-2005; LatestRevisionNote: Stylized 3D Model Added.; DatasheetVersion: Jun-1989; PackageVersion: Jan-1997; PackageReference: DIP14; Publisher: Altium Limited; PackageDescription: DIP; 14 Leads; Row Spacing 7.62 mm; Pitch 2.54 mm; ComponentLink1Description: Manufacturer Link; ComponentLink1URL: http://www.st.com/; ComponentLink2Description: Datasheet; ComponentLink2URL: http://www.st.com/stonline/products/literature/ds/2059/hcf4068.pdf
footprint DIP14 (DIP; 14 Leads; Row Spacing 7.62 mm; Pitch 2.54 mm)
3D model DIP14 (DIP; 14 Leads; Row Spacing 7.62 mm; Pitch 2.54 mm)
simulation model HCF4068 (SIMCODE)
pins: 1 K (out), 2 A (in), 3 B (in), 4 C (in), 5 D (in), 7 GND (power) hidden to GND, 9 E (in), 10 F (in), 11 G (in), 12 H (in), 13 J (out), 14 VCC (power) hidden to VCC

## HCF4068BM1
designator U?
8-Input NAND/AND Gate; Note: Pins 6 and 8 are not connected and not drawn.; Published: 8-Jun-2000; LatestRevisionDate: 13-Apr-2006; LatestRevisionNote: IPC-7351 Footprint Added.; DatasheetVersion: Jun-1989; PackageVersion: Sep-1998; PackageReference: SO14; Publisher: Altium Limited; PackageDescription: 14-Pin Small Outline Integrated Circuit 1.27 mm Pitch; Code_IPC: SOIC127P600-14; ComponentLink1Description: Manufacturer Link; ComponentLink1URL: http://www.st.com/; ComponentLink2Description: Datasheet; ComponentLink2URL: http://www.st.com/stonline/products/literature/ds/2059/hcf4068.pdf
footprint SO14_N (SOIC, 14-Leads, Body 8.7x3.9mm, Pitch 1.27mm, IPC Medium Density)
footprint SO14_L (SOIC, 14-Leads, Body 8.7x3.9mm, Pitch 1.27mm, IPC High Density)
footprint SO14_M (SOIC, 14-Leads, Body 8.7x3.9mm, Pitch 1.27mm, IPC Low Density)
3D model SO14 (14-Pin Small Outline Integrated Circuit 1.27 mm Pitch)
simulation model HCF4068 (SIMCODE)
pins: 1 K (out), 2 A (in), 3 B (in), 4 C (in), 5 D (in), 7 GND (power) hidden to GND, 9 E (in), 10 F (in), 11 G (in), 12 H (in), 13 J (out), 14 VCC (power) hidden to VCC

## HCF4069UBEY
designator U?
Hex Inverter; Published: 8-Jun-2000; LatestRevisionDate: 06-Jun-2005; LatestRevisionNote: Stylized 3D Model Added.; DatasheetVersion: Jun-1989; PackageVersion: Jan-1997; PackageReference: DIP14; Publisher: Altium Limited; PackageDescription: DIP; 14 Leads; Row Spacing 7.62 mm; Pitch 2.54 mm; ComponentLink1Description: Manufacturer Link; ComponentLink1URL: http://www.st.com/; ComponentLink2Description: Datasheet; ComponentLink2URL: http://www.st.com/stonline/products/literature/ds/2060/hcf4069u.pdf
footprint DIP14 (DIP; 14 Leads; Row Spacing 7.62 mm; Pitch 2.54 mm)
3D model DIP14 (DIP; 14 Leads; Row Spacing 7.62 mm; Pitch 2.54 mm)
simulation model HCF4069 (SIMCODE)
pins on every part: 7 GND (power) hidden to GND, 14 VDD (power) hidden to VDD
part A pins: 1 A (in), 2 G (out)
part B pins: 3 B (in), 4 H (out)
part C pins: 5 C (in), 6 I (out)
part D pins: 8 J (out), 9 D (in)
part E pins: 10 K (out), 11 E (in)
part F pins: 12 L (out), 13 F (in)

## HCF4069UBM1
designator U?
Hex Inverter; Published: 8-Jun-2000; LatestRevisionDate: 13-Apr-2006; LatestRevisionNote: IPC-7351 Footprint Added.; DatasheetVersion: Jun-1989; PackageVersion: Sep-1998; PackageReference: SO14; Publisher: Altium Limited; PackageDescription: 14-Pin Small Outline Integrated Circuit 1.27 mm Pitch; Code_IPC: SOIC127P600-14; ComponentLink1Description: Manufacturer Link; ComponentLink1URL: http://www.st.com/; ComponentLink2Description: Datasheet; ComponentLink2URL: http://www.st.com/stonline/products/literature/ds/2060/hcf4069u.pdf
footprint SO14_N (SOIC, 14-Leads, Body 8.7x3.9mm, Pitch 1.27mm, IPC Medium Density)
footprint SO14_L (SOIC, 14-Leads, Body 8.7x3.9mm, Pitch 1.27mm, IPC High Density)
footprint SO14_M (SOIC, 14-Leads, Body 8.7x3.9mm, Pitch 1.27mm, IPC Low Density)
3D model SO14 (14-Pin Small Outline Integrated Circuit 1.27 mm Pitch)
simulation model HCF4069 (SIMCODE)
pins on every part: 7 GND (power) hidden to GND, 14 VDD (power) hidden to VDD
part A pins: 1 A (in), 2 G (out)
part B pins: 3 B (in), 4 H (out)
part C pins: 5 C (in), 6 I (out)
part D pins: 8 J (out), 9 D (in)
part E pins: 10 K (out), 11 E (in)
part F pins: 12 L (out), 13 F (in)

## HCF4070BEY
designator U?
Quad Exclusive OR Gate; Published: 8-Jun-2000; LatestRevisionDate: 06-Jun-2005; LatestRevisionNote: Stylized 3D Model Added.; DatasheetVersion: Sep-1988; PackageVersion: Jan-1997; PackageReference: DIP14; Publisher: Altium Limited; PackageDescription: DIP; 14 Leads; Row Spacing 7.62 mm; Pitch 2.54 mm; ComponentLink1Description: Manufacturer Link; ComponentLink1URL: http://www.st.com/; ComponentLink2Description: Datasheet; ComponentLink2URL: http://www.st.com/stonline/products/literature/ds/2061/hcf4070.pdf
footprint DIP14 (DIP; 14 Leads; Row Spacing 7.62 mm; Pitch 2.54 mm)
3D model DIP14 (DIP; 14 Leads; Row Spacing 7.62 mm; Pitch 2.54 mm)
simulation model HCF4070 (SIMCODE)
pins on every part: 7 GND (power) hidden to GND, 14 VDD (power) hidden to VDD
part A pins: 1 A (in), 2 B (in), 3 J (out)
part B pins: 4 K (out), 5 C (in), 6 D (in)
part C pins: 8 E (in), 9 F (in), 10 L (out)
part D pins: 11 M (out), 12 G (in), 13 H (in)

## HCF4070BM1
designator U?
Quad Exclusive OR Gate; Published: 8-Jun-2000; LatestRevisionDate: 13-Apr-2006; LatestRevisionNote: IPC-7351 Footprint Added.; DatasheetVersion: Sep-1988; PackageVersion: Sep-1998; PackageReference: SO14; Publisher: Altium Limited; PackageDescription: 14-Pin Small Outline Integrated Circuit 1.27 mm Pitch; Code_IPC: SOIC127P600-14; ComponentLink1Description: Manufacturer Link; ComponentLink1URL: http://www.st.com/; ComponentLink2Description: Datasheet; ComponentLink2URL: http://www.st.com/stonline/products/literature/ds/2061/hcf4070.pdf
footprint SO14_N (SOIC, 14-Leads, Body 8.7x3.9mm, Pitch 1.27mm, IPC Medium Density)
footprint SO14_L (SOIC, 14-Leads, Body 8.7x3.9mm, Pitch 1.27mm, IPC High Density)
footprint SO14_M (SOIC, 14-Leads, Body 8.7x3.9mm, Pitch 1.27mm, IPC Low Density)
3D model SO14 (14-Pin Small Outline Integrated Circuit 1.27 mm Pitch)
simulation model HCF4070 (SIMCODE)
pins on every part: 7 GND (power) hidden to GND, 14 VDD (power) hidden to VDD
part A pins: 1 A (in), 2 B (in), 3 J (out)
part B pins: 4 K (out), 5 C (in), 6 D (in)
part C pins: 8 E (in), 9 F (in), 10 L (out)
part D pins: 11 M (out), 12 G (in), 13 H (in)

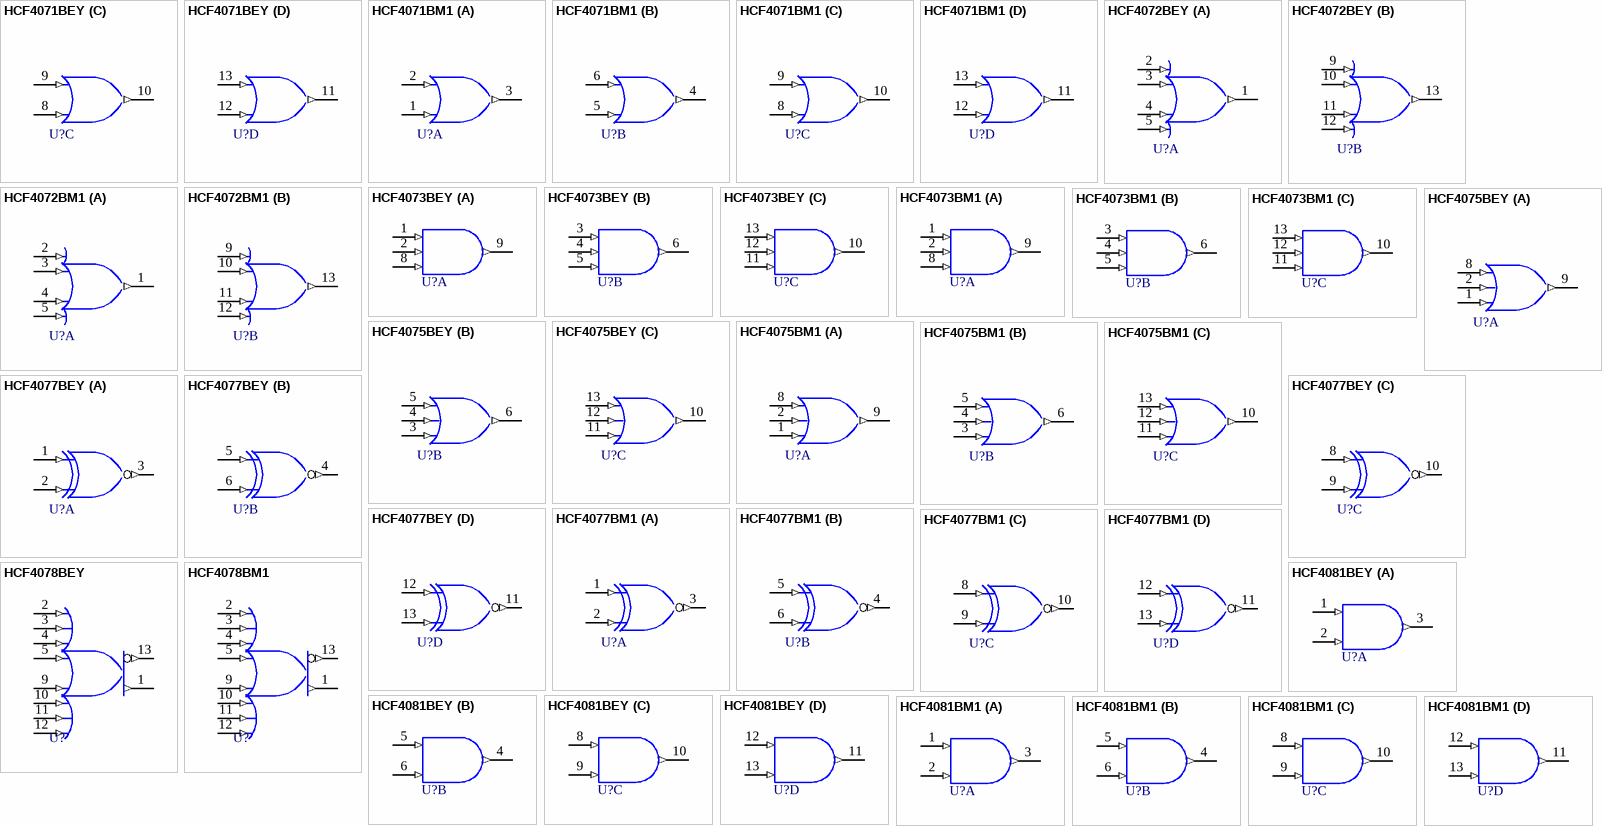
[diagram p9: symbols HCF4071BEY to HCF4081BM1]

## HCF4071BEY
designator U?
Quad 2-Input OR Gate; Published: 8-Jun-2000; LatestRevisionDate: 06-Jun-2005; LatestRevisionNote: Stylized 3D Model Added.; DatasheetVersion: Jun-1989; PackageVersion: Jan-1997; PackageReference: DIP14; Publisher: Altium Limited; PackageDescription: DIP; 14 Leads; Row Spacing 7.62 mm; Pitch 2.54 mm; ComponentLink1Description: Manufacturer Link; ComponentLink1URL: http://www.st.com/; ComponentLink2Description: Datasheet; ComponentLink2URL: http://www.st.com/stonline/products/literature/ds/2062/hcf4071.pdf
footprint DIP14 (DIP; 14 Leads; Row Spacing 7.62 mm; Pitch 2.54 mm)
3D model DIP14 (DIP; 14 Leads; Row Spacing 7.62 mm; Pitch 2.54 mm)
simulation model HCF4071 (SIMCODE)
pins on every part: 7 GND (power) hidden to GND, 14 VDD (power) hidden to VDD
part A pins: 1 B (in), 2 A (in), 3 J (out)
part B pins: 4 K (out), 5 D (in), 6 C (in)
part C pins: 8 F (in), 9 E (in), 10 L (out)
part D pins: 11 M (out), 12 H (in), 13 G (in)

## HCF4071BM1
designator U?
Quad 2-Input OR Gate; Published: 8-Jun-2000; LatestRevisionDate: 13-Apr-2006; LatestRevisionNote: IPC-7351 Footprint Added.; DatasheetVersion: Jun-1989; PackageVersion: Sep-1998; PackageReference: SO14; Publisher: Altium Limited; PackageDescription: 14-Pin Small Outline Integrated Circuit 1.27 mm Pitch; Code_IPC: SOIC127P600-14; ComponentLink1Description: Manufacturer Link; ComponentLink1URL: http://www.st.com/; ComponentLink2Description: Datasheet; ComponentLink2URL: http://www.st.com/stonline/products/literature/ds/2062/hcf4071.pdf
footprint SO14_N (SOIC, 14-Leads, Body 8.7x3.9mm, Pitch 1.27mm, IPC Medium Density)
footprint SO14_L (SOIC, 14-Leads, Body 8.7x3.9mm, Pitch 1.27mm, IPC High Density)
footprint SO14_M (SOIC, 14-Leads, Body 8.7x3.9mm, Pitch 1.27mm, IPC Low Density)
3D model SO14 (14-Pin Small Outline Integrated Circuit 1.27 mm Pitch)
simulation model HCF4071 (SIMCODE)
pins on every part: 7 GND (power) hidden to GND, 14 VDD (power) hidden to VDD
part A pins: 1 B (in), 2 A (in), 3 J (out)
part B pins: 4 K (out), 5 D (in), 6 C (in)
part C pins: 8 F (in), 9 E (in), 10 L (out)
part D pins: 11 M (out), 12 H (in), 13 G (in)

## HCF4072BEY
designator U?
Dual 4-Input OR Gate; Note: Pins 6 and 8 are not connected and not drawn.; Published: 8-Jun-2000; LatestRevisionDate: 06-Jun-2005; LatestRevisionNote: Stylized 3D Model Added.; DatasheetVersion: Jun-1989; PackageVersion: Jan-1997; PackageReference: DIP14; Publisher: Altium Limited; PackageDescription: DIP; 14 Leads; Row Spacing 7.62 mm; Pitch 2.54 mm; ComponentLink1Description: Manufacturer Link; ComponentLink1URL: http://www.st.com/; ComponentLink2Description: Datasheet; ComponentLink2URL: http://www.st.com/stonline/products/literature/ds/8195/hcf4072.pdf
footprint DIP14 (DIP; 14 Leads; Row Spacing 7.62 mm; Pitch 2.54 mm)
3D model DIP14 (DIP; 14 Leads; Row Spacing 7.62 mm; Pitch 2.54 mm)
simulation model HCF4072 (SIMCODE)
pins on every part: 7 GND (power) hidden to GND, 14 VDD (power) hidden to VDD
part A pins: 1 J (out), 2 A (in), 3 B (in), 4 C (in), 5 D (in)
part B pins: 9 E (in), 10 F (in), 11 G (in), 12 H (in), 13 K (out)

## HCF4072BM1
designator U?
Dual 4-Input OR Gate; Note: Pins 6 and 8 are not connected and not drawn.; Published: 8-Jun-2000; LatestRevisionDate: 13-Apr-2006; LatestRevisionNote: IPC-7351 Footprint Added.; DatasheetVersion: Jun-1989; PackageVersion: Sep-1998; PackageReference: SO14; Publisher: Altium Limited; PackageDescription: 14-Pin Small Outline Integrated Circuit 1.27 mm Pitch; Code_IPC: SOIC127P600-14; ComponentLink1Description: Manufacturer Link; ComponentLink1URL: http://www.st.com/; ComponentLink2Description: Datasheet; ComponentLink2URL: http://www.st.com/stonline/products/literature/ds/8195/hcf4072.pdf
footprint SO14_N (SOIC, 14-Leads, Body 8.7x3.9mm, Pitch 1.27mm, IPC Medium Density)
footprint SO14_L (SOIC, 14-Leads, Body 8.7x3.9mm, Pitch 1.27mm, IPC High Density)
footprint SO14_M (SOIC, 14-Leads, Body 8.7x3.9mm, Pitch 1.27mm, IPC Low Density)
3D model SO14 (14-Pin Small Outline Integrated Circuit 1.27 mm Pitch)
simulation model HCF4072 (SIMCODE)
pins on every part: 7 GND (power) hidden to GND, 14 VDD (power) hidden to VDD
part A pins: 1 J (out), 2 A (in), 3 B (in), 4 C (in), 5 D (in)
part B pins: 9 E (in), 10 F (in), 11 G (in), 12 H (in), 13 K (out)

## HCF4073BEY
designator U?
Triple 3-Input AND Gate; Published: 8-Jun-2000; LatestRevisionDate: 06-Jun-2005; LatestRevisionNote: Stylized 3D Model Added.; DatasheetVersion: Jun-1989; PackageVersion: Jan-1997; PackageReference: DIP14; Publisher: Altium Limited; PackageDescription: DIP; 14 Leads; Row Spacing 7.62 mm; Pitch 2.54 mm; ComponentLink1Description: Manufacturer Link; ComponentLink1URL: http://www.st.com/; ComponentLink2Description: Datasheet; ComponentLink2URL: http://www.st.com/stonline/products/literature/ds/2063/hcf4073.pdf
footprint DIP14 (DIP; 14 Leads; Row Spacing 7.62 mm; Pitch 2.54 mm)
3D model DIP14 (DIP; 14 Leads; Row Spacing 7.62 mm; Pitch 2.54 mm)
simulation model HCF4073 (SIMCODE)
pins on every part: 7 GND (power) hidden to GND, 14 VDD (power) hidden to VDD
part A pins: 1 A (in), 2 B (in), 8 C (in), 9 J (out)
part B pins: 3 D (in), 4 E (in), 5 F (in), 6 K (out)
part C pins: 10 L (out), 11 I (in), 12 H (in), 13 G (in)

## HCF4073BM1
designator U?
Triple 3-Input AND Gate; Published: 8-Jun-2000; LatestRevisionDate: 13-Apr-2006; LatestRevisionNote: IPC-7351 Footprint Added.; DatasheetVersion: Jun-1989; PackageVersion: Sep-1998; PackageReference: SO14; Publisher: Altium Limited; PackageDescription: 14-Pin Small Outline Integrated Circuit 1.27 mm Pitch; Code_IPC: SOIC127P600-14; ComponentLink1Description: Manufacturer Link; ComponentLink1URL: http://www.st.com/; ComponentLink2Description: Datasheet; ComponentLink2URL: http://www.st.com/stonline/products/literature/ds/2063/hcf4073.pdf
footprint SO14_N (SOIC, 14-Leads, Body 8.7x3.9mm, Pitch 1.27mm, IPC Medium Density)
footprint SO14_L (SOIC, 14-Leads, Body 8.7x3.9mm, Pitch 1.27mm, IPC High Density)
footprint SO14_M (SOIC, 14-Leads, Body 8.7x3.9mm, Pitch 1.27mm, IPC Low Density)
3D model SO14 (14-Pin Small Outline Integrated Circuit 1.27 mm Pitch)
simulation model HCF4073 (SIMCODE)
pins on every part: 7 GND (power) hidden to GND, 14 VDD (power) hidden to VDD
part A pins: 1 A (in), 2 B (in), 8 C (in), 9 J (out)
part B pins: 3 D (in), 4 E (in), 5 F (in), 6 K (out)
part C pins: 10 L (out), 11 I (in), 12 H (in), 13 G (in)

## HCF4075BEY
designator U?
Triple 3-Input OR Gate; Published: 8-Jun-2000; LatestRevisionDate: 06-Jun-2005; LatestRevisionNote: Stylized 3D Model Added.; DatasheetVersion: Jun-1989; PackageVersion: Jan-1997; PackageReference: DIP14; Publisher: Altium Limited; PackageDescription: DIP; 14 Leads; Row Spacing 7.62 mm; Pitch 2.54 mm; ComponentLink1Description: Manufacturer Link; ComponentLink1URL: http://www.st.com/; ComponentLink2Description: Datasheet; ComponentLink2URL: http://www.st.com/stonline/products/literature/ds/8196/hcf4075.pdf
footprint DIP14 (DIP; 14 Leads; Row Spacing 7.62 mm; Pitch 2.54 mm)
3D model DIP14 (DIP; 14 Leads; Row Spacing 7.62 mm; Pitch 2.54 mm)
simulation model HCF4075 (SIMCODE)
pins on every part: 7 GND (power) hidden to GND, 14 VDD (power) hidden to VDD
part A pins: 1 C (in), 2 B (in), 8 A (in), 9 J (out)
part B pins: 3 F (in), 4 E (in), 5 D (in), 6 K (out)
part C pins: 10 L (out), 11 I (in), 12 H (in), 13 G (in)

## HCF4075BM1
designator U?
Triple 3-Input OR Gate; Published: 8-Jun-2000; LatestRevisionDate: 13-Apr-2006; LatestRevisionNote: IPC-7351 Footprint Added.; DatasheetVersion: Jun-1989; PackageVersion: Sep-1998; PackageReference: SO14; Publisher: Altium Limited; PackageDescription: 14-Pin Small Outline Integrated Circuit 1.27 mm Pitch; Code_IPC: SOIC127P600-14; ComponentLink1Description: Manufacturer Link; ComponentLink1URL: http://www.st.com/; ComponentLink2Description: Datasheet; ComponentLink2URL: http://www.st.com/stonline/products/literature/ds/8196/hcf4075.pdf
footprint SO14_N (SOIC, 14-Leads, Body 8.7x3.9mm, Pitch 1.27mm, IPC Medium Density)
footprint SO14_L (SOIC, 14-Leads, Body 8.7x3.9mm, Pitch 1.27mm, IPC High Density)
footprint SO14_M (SOIC, 14-Leads, Body 8.7x3.9mm, Pitch 1.27mm, IPC Low Density)
3D model SO14 (14-Pin Small Outline Integrated Circuit 1.27 mm Pitch)
simulation model HCF4075 (SIMCODE)
pins on every part: 7 GND (power) hidden to GND, 14 VDD (power) hidden to VDD
part A pins: 1 C (in), 2 B (in), 8 A (in), 9 J (out)
part B pins: 3 F (in), 4 E (in), 5 D (in), 6 K (out)
part C pins: 10 L (out), 11 I (in), 12 H (in), 13 G (in)